# Altium schematic symbol library raspberry_pi.SchLib: 1 symbol
Pins are listed as number, name and electrical type; pins without a type are passive.

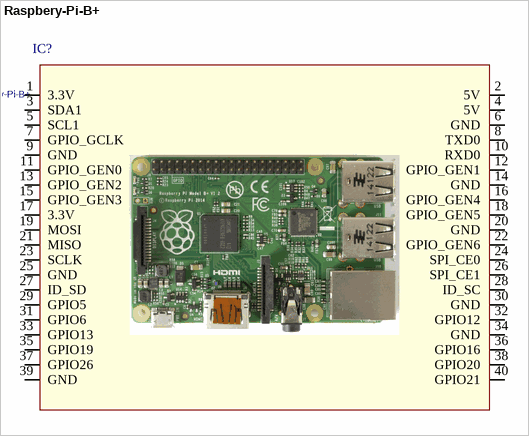
[diagram p0: symbol Raspbery-Pi-B+]

## Raspbery-Pi-B+
designator IC?
ID: Raspbery-Pi-B+; PRICE: 150 z³; PDF: *; BUY_LINK: *
footprint Raspbery-Pi-B+
pins: 1 3.3V, 2 5V, 3 SDA1, 4 5V, 5 SCL1, 6 GND, 7 GPIO_GCLK, 8 TXD0, 9 GND, 10 RXD0, 11 GPIO_GEN0, 12 GPIO_GEN1, 13 GPIO_GEN2, 14 GND, 15 GPIO_GEN3, 16 GPIO_GEN4, 17 3.3V, 18 GPIO_GEN5, 19 MOSI, 20 GND, 21 MISO, 22 GPIO_GEN6, 23 SCLK, 24 SPI_CE0, 25 GND, 26 SPI_CE1, 27 ID_SD, 28 ID_SC, 29 GPIO5, 30 GND, 31 GPIO6, 32 GPIO12, 33 GPIO13, 34 GND, 35 GPIO19, 36 GPIO16, 37 GPIO26, 38 GPIO20, 39 GND, 40 GPIO21